# Altium footprint library PB0042.PcbLib: 39 footprints (part 3 of 3)
Each footprint in its own frame and in the unit in brackets; x right, y up, seen from the top. Pads: shape width x height; smd on the part's side, far side on the other; paste and mask are expansions set on the pad; w line width, h text height; cw(c..) or ccw(c..) is an arc to the next point about the centre after c.
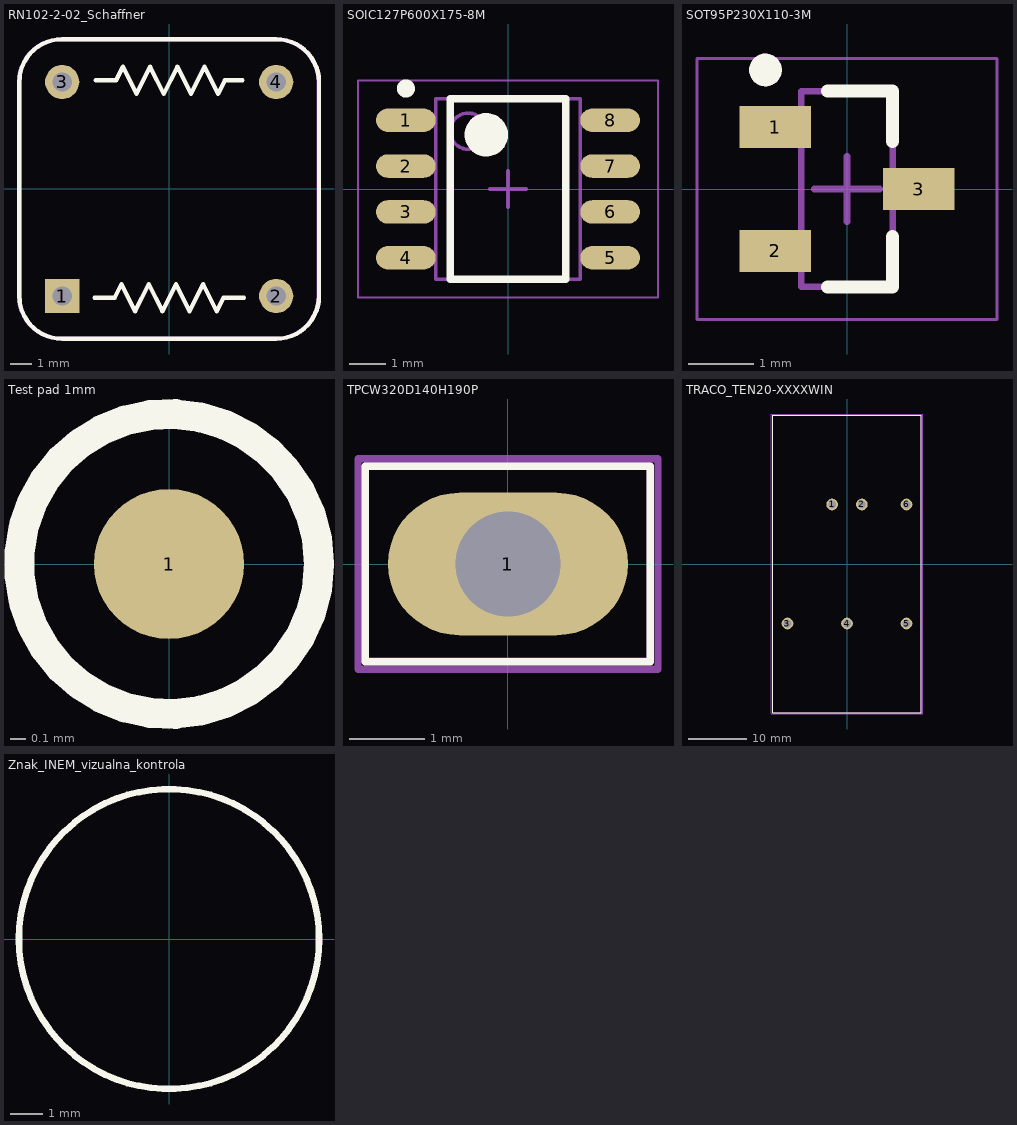
[diagram p2: the footprints below, top view; thin cyan lines are the x and y axes]

## RN102-2-02_Schaffner [mm]
pads (4):
  rect 1.6x1.6 hole 0.9: 1(-5,-5)
  round 1.6 hole 0.9: 2(5,-5) 3(-5,5) 4(5,5)
Top Overlay:
  lines w0.2: -3.492,-5.08 -2.54,-5.08 -2.222,-4.445 -1.587,-5.715 -0.953,-4.445 -0.318,-5.715 0.318,-4.445 0.953,-5.715 1.587,-4.445 2.222,-5.715 2.54,-5.08 3.492,-5.08 ; -3.429,5.08 -2.476,5.08 -2.159,5.715 -1.524,4.445 -0.889,5.715 -0.254,4.445 0.381,5.715 1.016,4.445 1.651,5.715 2.286,4.445 2.603,5.08 3.429,5.08 ; -7,-5 ccw(c-5,-5) -5,-7 5,-7 ccw(c5,-5) 7,-5 7,5 ccw(c5,5) 5,7 -5,7 ccw(c-5,5) -7,5 -7,-5
Top Assembly:
  lines w0.2: -7.015,-5 ccw(c-5.015,-5) -5.015,-7 4.985,-7 ccw(c4.985,-5) 6.985,-5 6.985,5 ccw(c4.985,5) 4.985,7 -5.015,7 ccw(c-5.015,5) -7.015,5 -7.015,-5
  text ".Designator" at -0.5,-0.339 h1.52
Top Courtyard:
  lines w0.2: -7,-5 ccw(c-5,-5) -5,-7 5,-7 ccw(c5,-5) 7,-5 7,5 ccw(c5,5) 5,7 -5,7 ccw(c-5,5) -7,5 -7,-5
3D body: height 3.5, standoff -9.5, extent -7,-7 7,7

## SOIC127P600X175-8M [mm]
pads (8):
  oval 1.65x0.65 smd: 1(-2.825,1.905) 2(-2.825,0.635) 3(-2.825,-0.635) 4(-2.825,-1.905) 5(2.825,-1.905) 6(2.825,-0.635) 7(2.825,0.635) 8(2.825,1.905)
Top Overlay:
  circle w0.25: c-2.825,2.78 r0.125
  circle w0.6: c-0.6,1.5 r0.3
  lines w0.2: -1.6,-2.5 -1.6,2.5 1.6,2.5 1.6,-2.5 -1.6,-2.5
Top Assembly:
  circle w0.1: c-1.1,1.6 r0.5
  lines w0.1: -2,-2.5 -2,2.5 2,2.5 2,-2.5 -2,-2.5
  text ".Designator" at 0.5,-0.9 h1.52
Top Courtyard:
  lines w0.05: -4.15,-3 -4.15,3 4.15,3 4.15,-3 -4.15,-3
  lines w0.1: -0.5,0 0.5,0 ; 0,-0.5 0,0.5
3D body "SOIC127P600X175-8M.step": height 1.75, standoff 0, extent -3,-2.5 3,2.5

## SOT95P230X110-3M [mm]
pads (3):
  rect 1.1x0.65 smd: 1(-1.1,0.95) 2(-1.1,-0.95) 3(1.1,0)
Top Overlay:
  circle w0.25: c-1.25,1.825 r0.125
  lines w0.2: -0.3,-1.5 0.7,-1.5 0.7,-0.725 ; -0.3,1.5 0.7,1.5 0.7,0.725
Top Assembly:
  circle w0.25: c-1.25,1.825 r0.125
  lines w0.1: -0.7,-1.5 0.7,-1.5 0.7,1.5 -0.7,1.5 -0.7,-1.5
  text ".Designator" at -0.5,0.8 h1.52
Top Courtyard:
  lines w0.05: -2.3,-2 2.3,-2 2.3,2 -2.3,2 -2.3,-2
  lines w0.1: -0.5,0 0.5,0 ; 0,-0.5 0,0.5
3D body "SOT95P230X110-3M.step": height 1.1, standoff 0, extent -1.3,-1.5 1.3,1.5

## Test pad 1mm [mm]
pads (1):
  round 1 smd: 1(0,0)
Top Overlay:
  circle w0.2: c0,0 r1

## TPCW320D140H190P [mm]
pads (1):
  oval 3.2x1.9 hole 1.4: 1(0,0)
Top Overlay:
  lines w0.1: -1.9,-1.3 -1.9,1.3 1.9,1.3 1.9,-1.3 -1.9,-1.3
Top Assembly:
  lines w0.1: -1.9,-1.3 1.9,-1.3 1.9,1.3 -1.9,1.3 -1.9,-1.3
  text ".Designator" at -0.8,-0.5 h1.52
Top Courtyard:
  lines w0.1: -2,-1.4 2,-1.4 2,1.4 -2,1.4 -2,-1.4
3D body: height 4.1, standoff -3.4, extent -1.4,-0.3 1.4,0.3

## TRACO_TEN20-XXXXWIN [mm]
pads (6):
  round 2 hole 1.3: 1(-2.54,10.16) 2(2.54,10.16) 3(-10.16,-10.16) 4(0,-10.16) 5(10.16,-10.16) 6(10.16,10.16)
Top Overlay:
  lines w0.2: -12.7,-25.4 -12.7,25.4 12.7,25.4 12.7,-25.4 -12.7,-25.4
Top Assembly:
  lines w0.2: -12.7,-25.4 -12.7,25.4 12.7,25.4 12.7,-25.4 -12.7,-25.4
  text ".Designator" at 0.5,0.089 h1.52
Top Courtyard:
  lines w0.2: -12.9,-25.6 -12.9,25.6 12.9,25.6 12.9,-25.6 -12.9,-25.6
3D body: height 10.21, standoff -5.59, extent -12.7,-25.4 12.7,25.4

## Znak_INEM_vizualna_kontrola [mm]
Top Overlay:
  circle w0.2: c0,0 r4.6
Top Assembly:
  circle w0.1: c0,0 r4.6